# Altium footprint library PCB2.PcbLib: 11 footprints
Each footprint in its own frame and in the unit in brackets; x right, y up, seen from the top. Pads: shape width x height; smd on the part's side, far side on the other; paste and mask are expansions set on the pad; w line width, h text height; cw(c..) or ccw(c..) is an arc to the next point about the centre after c.
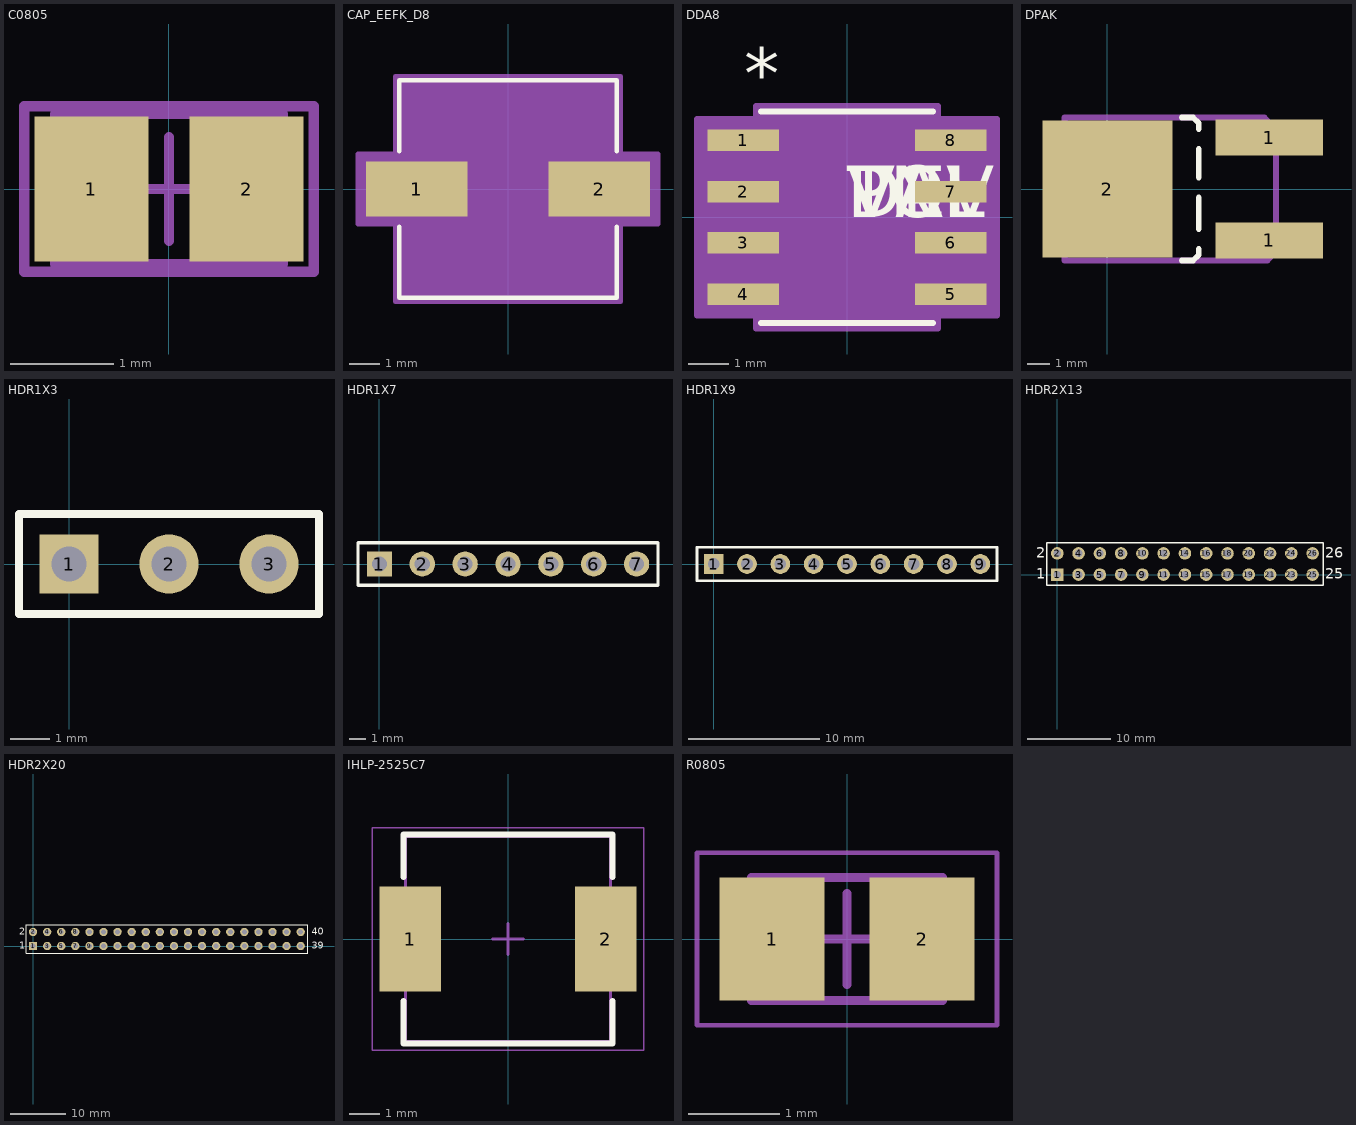
[diagram p0: the footprints below, top view; thin cyan lines are the x and y axes]

## C0805 [mm]
pads (2):
  rect 1.1x1.4 smd: 1(-0.75,0) 2(0.75,0)
Mechanical 13:
  lines w0.1: -1.1,-0.725 -1.1,0.725 1.1,0.725 1.1,-0.725 -1.1,-0.725
Mechanical 15:
  lines w0.1: -0.5,0 0.5,0 ; 0,-0.5 0,0.5 ; -1.4,-0.8 -1.4,0.8 1.4,0.8 1.4,-0.8 -1.4,-0.8
3D body: height 1.4, standoff 0, extent -1.1,-0.725 1.1,0.725

## CAP_EEFK_D8 [mil]
pads (2):
  rect 130x70 smd paste+0 mask+0: 1(-116.5,0) 2(116.5,0)
Top Overlay:
  lines w6: -139,-48.1 -139,-139 139,-139 139,-48.1 ; -139,48.1 -139,139 139,139 139,48.1
Mechanical 13:
  lines w1: -134,-67 -67,-134 ; -134,67 -67,134 ; -134,-134 -134,134 134,134 134,-134 -134,-134
Mechanical 15:
  region: -144,-45 -191.5,-45 -191.5,45 -144,45 -144,144 144,144 144,45 191.5,45 191.5,-45 144,-45 144,-144 -144,-144
  lines w6: -191.5,-45 -144,-45 -144,-144 144,-144 144,-45 191.5,-45 191.5,45 144,45 144,144 -144,144 -144,45 -191.5,45 -191.5,-45
3D body: height 10, standoff 0, extent 0,0 10,10
3D body "STL?STL?STEP?CAP_EEFK_D8.step": height 317.09, standoff 0, extent -153.5,-134.02 153.5,134.02

## DDA8 [mil]
pads (8):
  rect 70x21 smd paste+0 mask+0: 1(-101,75) 2(-101,25) 3(-101,-25) 4(-101,-75) 5(101,-75) 6(101,-25) 7(101,25) 8(101,75)
Top Overlay:
  lines w6: -83.5,-103 83.5,-103 ; -83.5,103 83.5,103
  text "*" at -100,115 h50
  text "PN" at 0,0 h50
  text "DEV" at 0,0 h50
  text "VAL" at 0,0 h50
  text "TOL" at 0,0 h50
Mechanical 13:
  lines w0: -12,98 ccw(c0,98) 12,98
  lines w1: -122,-84.5 -122,-65.5 -78.5,-65.5 -78.5,-84.5 -122,-84.5 ; -122,-34.5 -122,-15.5 -78.5,-15.5 -78.5,-34.5 -122,-34.5 ; -122,15.5 -122,34.5 -78.5,34.5 -78.5,15.5 -122,15.5 ; -122,65.5 -122,84.5 -78.5,84.5 -78.5,65.5 -122,65.5 ; -78.5,-98 78.5,-98 78.5,98 -78.5,98 -78.5,-98 ; 78.5,-84.5 78.5,-65.5 122,-65.5 122,-84.5 78.5,-84.5 ; 78.5,-34.5 78.5,-15.5 122,-15.5 122,-34.5 78.5,-34.5 ; 78.5,15.5 78.5,34.5 122,34.5 122,15.5 78.5,15.5 ; 78.5,65.5 78.5,84.5 122,84.5 122,65.5 78.5,65.5
  text "*" at -100,115 h50
  text "RefDes2" at 0,0 h50
Mechanical 15:
  region: -88.5,-95.5 -146,-95.5 -146,95.5 -88.5,95.5 -88.5,108 88.5,108 88.5,95.5 146,95.5 146,-95.5 88.5,-95.5 88.5,-108 -88.5,-108
  lines w6: -146,-95.5 -146,95.5 -88.5,95.5 -88.5,108 88.5,108 88.5,95.5 146,95.5 146,-95.5 88.5,-95.5 88.5,-108 -88.5,-108 -88.5,-95.5 -146,-95.5
3D body: height 10, standoff 0, extent 0,0 10,10
3D body "STL?STL?STEP?DDA8.step": height 66.1, standoff 0, extent -122,-97.99 122.01,98

## DPAK [mil]
pads (3):
  rect 188x63 smd: 1(283,-90) 1(283,90)
  rect 228x240 smd: 2(0,0)
Top Overlay:
  lines w10: 130,-125 150,-125 160,-115 160,-105 ; 130,125 150,125 160,115 160,105 ; 160,-70 160,-15 ; 160,20 160,70
Mechanical 13:
  lines w10: -75,-125 -75,125 275,125 295,105 295,-110 280,-125 -75,-125
Drill Drawing:
  lines w10: -125,-150 400,-150 400,150 -125,150 -125,-150

## HDR1X3 [mm]
pads (3):
  rect 1.5x1.5 hole 0.9: 1(0,0)
  round 1.5 hole 0.9: 2(2.54,0) 3(5.08,0)
Top Overlay:
  lines w0.2: -1.27,-1.27 -1.27,1.27 6.35,1.27 6.35,-1.27 -1.27,-1.27

## HDR1X7 [mm]
pads (7):
  rect 1.5x1.5 hole 0.9: 1(0,0)
  round 1.5 hole 0.9: 2(2.54,0) 3(5.08,0) 4(7.62,0) 5(10.16,0) 6(12.7,0) 7(15.24,0)
Top Overlay:
  lines w0.2: -1.27,-1.27 16.51,-1.27 16.51,1.27 -1.27,1.27 -1.27,-1.27

## HDR1X9 [mm]
pads (9):
  rect 1.5x1.5 hole 0.9: 1(0,0)
  round 1.5 hole 0.9: 2(2.54,0) 3(5.08,0) 4(7.62,0) 5(10.16,0) 6(12.7,0) 7(15.24,0) 8(17.78,0) 9(20.32,0)
Top Overlay:
  lines w0.2: -1.27,-1.27 -1.27,1.27 21.59,1.27 21.59,-1.27 -1.27,-1.27

## HDR2X13 [mm]
pads (26):
  rect 1.5x1.5 hole 0.9: 1(0,0)
  round 1.5 hole 0.9: 2(0,2.54) 3(2.54,0) 4(2.54,2.54) 5(5.08,0) 6(5.08,2.54) 7(7.62,0) 8(7.62,2.54) 9(10.16,0) 10(10.16,2.54) 11(12.7,0) 12(12.7,2.54) 13(15.24,0) 14(15.24,2.54) 15(17.78,0) 16(17.78,2.54) 17(20.32,0) 18(20.32,2.54) 19(22.86,0) 20(22.86,2.54) 21(25.4,0) 22(25.4,2.54) 23(27.94,0) 24(27.94,2.54) 25(30.48,0) 26(30.48,2.54)
Top Overlay:
  lines w0.2: -1.27,-1.27 31.75,-1.27 31.75,3.81 -1.27,3.81 -1.27,-1.27
  text "26" at 32.004,2.032 h1.27
  text "25" at 32.004,-0.508 h1.27
  text "1" at -2.54,-0.508 h1.27
  text "2" at -2.54,2.032 h1.27

## HDR2X20 [mm]
pads (40):
  rect 1.5x1.5 hole 0.9: 1(0,0)
  round 1.5 hole 0.9: 2(0,2.54) 3(2.54,0) 4(2.54,2.54) 5(5.08,0) 6(5.08,2.54) 7(7.62,0) 8(7.62,2.54) 9(10.16,0) 10(10.16,2.54) 11(12.7,0) 12(12.7,2.54) 13(15.24,0) 14(15.24,2.54) 15(17.78,0) 16(17.78,2.54) 17(20.32,0) 18(20.32,2.54) 19(22.86,0) 20(22.86,2.54) 21(25.4,0) 22(25.4,2.54) 23(27.94,0) 24(27.94,2.54) 25(30.48,0) 26(30.48,2.54) 27(33.02,0) 28(33.02,2.54) 29(35.56,0) 30(35.56,2.54) 31(38.1,0) 32(38.1,2.54) 33(40.64,0) 34(40.64,2.54) 35(43.18,0) 36(43.18,2.54) 37(45.72,0) 38(45.72,2.54) 39(48.26,0) 40(48.26,2.54)
Top Overlay:
  lines w0.2: -1.27,-1.27 -1.27,3.81 49.53,3.81 49.53,-1.27 -1.27,-1.27
  text "39" at 50.292,-0.508 h1.27
  text "40" at 50.292,2.032 h1.27
  text "2" at -2.54,2.032 h1.27
  text "1" at -2.54,-0.508 h1.27

## IHLP-2525C7 [mm]
pads (2):
  rect 2.02x3.429 smd: 1(-3.2,0) 2(3.2,0)
Top Overlay:
  lines w0.2: -3.429,-2.032 -3.429,-3.429 3.429,-3.429 3.429,-2.032 ; -3.429,2.032 -3.429,3.429 3.429,3.429 3.429,2.032
Mechanical 13:
  lines w0.1: -3.36,-3.36 -3.36,3.36 3.36,3.36 3.36,-3.36 -3.36,-3.36
Mechanical 15:
  lines w0.05: -4.445,-3.65 -4.445,3.65 4.445,3.65 4.445,-3.65 -4.445,-3.65
  lines w0.1: -0.5,0 0.5,0 ; 0,-0.5 0,0.5
3D body "IHLP2525CZ.STEP": height 2.89, standoff 0, extent -3.538,-3.302 3.538,3.368

## R0805 [mm]
pads (2):
  rect 1.15x1.35 smd: 1(-0.825,0) 2(0.825,0)
Mechanical 13:
  lines w0.1: -1.05,-0.675 1.05,-0.675 1.05,0.675 -1.05,0.675 -1.05,-0.675
Mechanical 15:
  lines w0.05: -1.65,-0.95 1.65,-0.95 1.65,0.95 -1.65,0.95 -1.65,-0.95
  lines w0.1: -0.5,0 0.5,0 ; 0,-0.5 0,0.5
3D body: height 0.9, standoff 0, extent 0.55,-0.675 1.05,0.675
3D body: height 0.9, standoff 0, extent -1.05,-0.675 -0.55,0.675
3D body: height 0.9, standoff 0, extent -0.55,-0.675 0.55,0.675